# EAGLE library part 50223-040 (library con-aces-50223-series)
ACES CONNECTORS 50223 SERIES ACES Connecors 50223
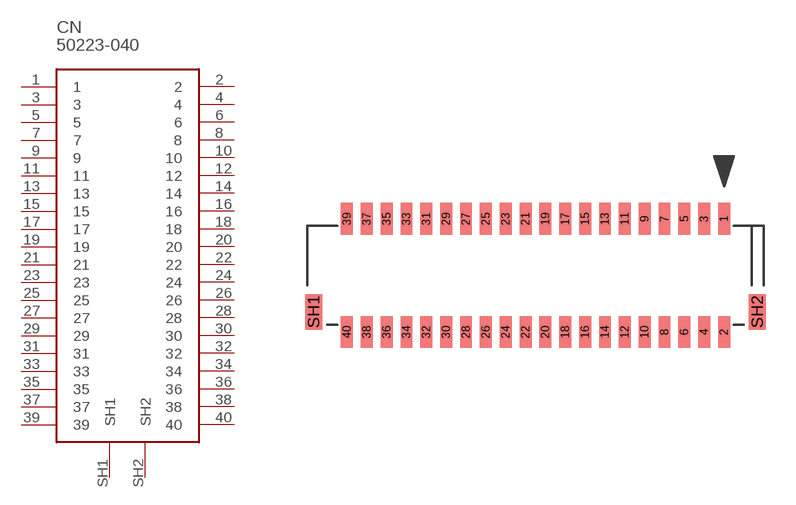
[diagram p9: symbol with the pads of 50223-040; footprint 50223-040]

Designator prefix CN

## 50223-040  [50223-040]
1  1
2  2
3  3
4  4
5  5
6  6
7  7
8  8
9  9
10  10
11  11
12  12
13  13
14  14
15  15
16  16
17  17
18  18
19  19
20  20
21  21
22  22
23  23
24  24
25  25
26  26
27  27
28  28
29  29
30  30
31  31
32  32
33  33
34  34
35  35
36  36
37  37
38  38
39  39
40  40
SH1  SH1
SH2  SH2

## Footprint 50223-040 (pad centres in mm)
smd 0.6 x 1.6: 1 9.5,2.85; 2 9.5,-2.85; 3 8.5,2.85; 4 8.5,-2.85; 5 7.5,2.85; 6 7.5,-2.85; 7 6.5,2.85; 8 6.5,-2.85; 9 5.5,2.85; 10 5.5,-2.85; 11 4.5,2.85; 12 4.5,-2.85; 13 3.5,2.85; 14 3.5,-2.85; 15 2.5,2.85; 16 2.5,-2.85; 17 1.5,2.85; 18 1.5,-2.85; 19 0.5,2.85; 20 0.5,-2.85; 21 -0.5,2.85; 22 -0.5,-2.85; 23 -1.5,2.85; 24 -1.5,-2.85; 25 -2.5,2.85; 26 -2.5,-2.85; 27 -3.5,2.85; 28 -3.5,-2.85; 29 -4.5,2.85; 30 -4.5,-2.85; 31 -5.5,2.85; 32 -5.5,-2.85; 33 -6.5,2.85; 34 -6.5,-2.85; 35 -7.5,2.85; 36 -7.5,-2.85; 37 -8.5,2.85; 38 -8.5,-2.85; 39 -9.5,2.85; 40 -9.5,-2.85
smd 0.85 x 1.8: SH1 -11.175,-1.85; SH2 11.175,-1.85